# EAGLE library part LP3982 (library IC)
Micropower, Ultra Low-Dropout, Low-Noise, 300mA CMOS Regulator
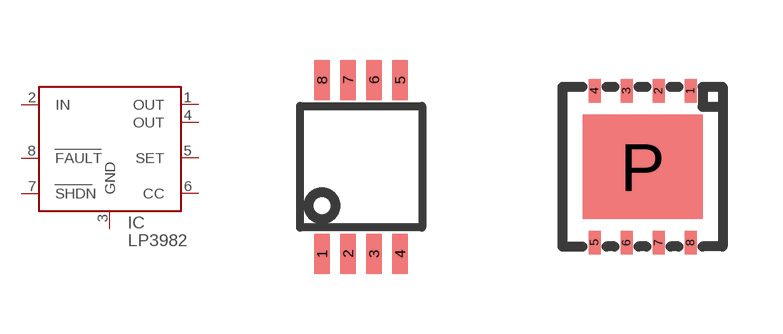
[diagram p172: symbol with the pads of MSOP-8; footprints MSOP-8, LLP-8]

Designator prefix IC

## LP3982-MM  [MSOP-8]
1  OUT
2  IN
3  GND
4  OUT
5  SET
6  CC
7  SHDN
8  FAULT

## LP3982-LD  [LLP-8]
Pads as for MSOP-8

## Footprint MSOP-8 (pad centres in mm)
Linear Tech MSOP-8, National Semiconductor MM, On-Semi Micro8 (DM)
smd 0.38 x 1: 1 -0.975,-2.175; 2 -0.325,-2.175; 3 0.325,-2.175; 4 0.975,-2.175; 5 0.975,2.175; 6 0.325,2.175; 7 -0.325,2.175; 8 -0.975,2.175

## Footprint LLP-8 (pad centres in mm)
LLP8 package (national semi)
smd 0.3 x 0.6: 1 1.2,1.9; 2 0.4,1.9; 3 -0.4,1.9; 4 -1.2,1.9; 5 -1.2,-1.9; 6 -0.4,-1.9; 7 0.4,-1.9; 8 1.2,-1.9
smd 3 x 2.6: P 0,0